# Altium footprint library LED SMD.PcbLib: 20 footprints (part 2 of 2)
Each footprint in its own frame and in the unit in brackets; x right, y up, seen from the top. Pads: shape width x height; smd on the part's side, far side on the other; paste and mask are expansions set on the pad; w line width, h text height; cw(c..) or ccw(c..) is an arc to the next point about the centre after c.
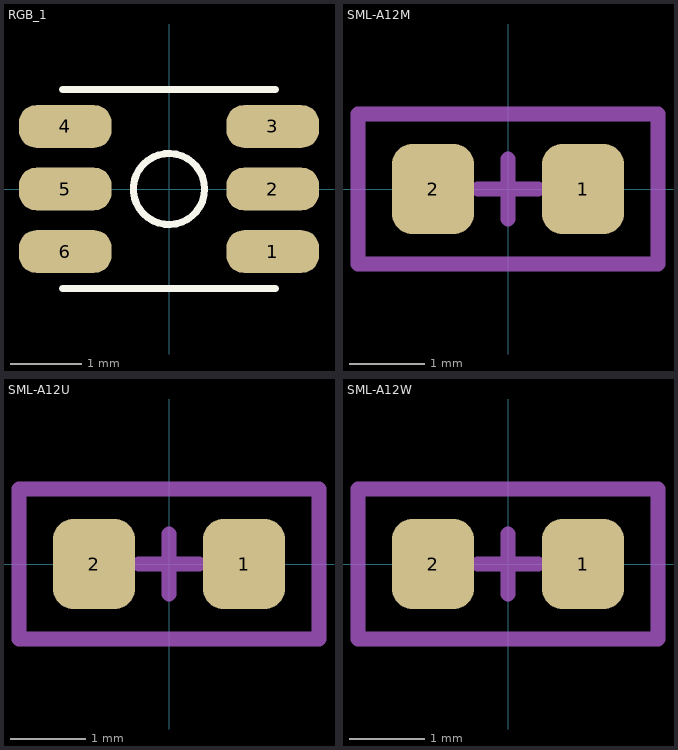
[diagram p1: the footprints below, top view; thin cyan lines are the x and y axes]

## RGB_1 [mm] "RGB_1_AVAGO"
height 1.8
pads (6):
  rrect80% 1.3x0.6 smd: 1(1.46,-0.88) 2(1.46,0) 3(1.46,0.88) 4(-1.46,0.88) 5(-1.46,0) 6(-1.46,-0.88)
Top Overlay:
  circle w0.1: c0,0 r0.5
  lines w0.1: -1.5,-1.4 1.5,-1.4 ; -1.5,1.4 1.5,1.4
3D body: height 1.8, standoff 0, extent -1.5,-1.4 1.5,1.4

## SML-A12M [mm] "0605 LED yellowish green"
pads (2):
  rrect50% 1.1x1.2 smd: 1(1,0) 2(-1,0)
Mechanical 15:
  lines w0.2: -0.4,0 0.4,0 ; 0,-0.4 0,0.4 ; -2,-1 -2,1 2,1 2,-1 -2,-1
3D body: height 0.55, standoff 0, extent -0.6,0.35 0.6,0.8
3D body: height 0.55, standoff 0, extent -0.8,-0.35 0.8,0.35

## SML-A12U [mm] "0605 LED Red"
pads (2):
  rrect50% 1.1x1.2 smd: 1(1,0) 2(-1,0)
Mechanical 15:
  lines w0.2: -0.4,0 0.4,0 ; 0,-0.4 0,0.4 ; -2,-1 2,-1 2,1 -2,1 -2,-1
3D body: height 0.55, standoff 0, extent -0.8,-0.35 0.8,0.35
3D body: height 0.55, standoff 0, extent -0.6,0.35 0.6,0.8

## SML-A12W [mm] "0605 LED Yellow"
pads (2):
  rrect50% 1.1x1.2 smd: 1(1,0) 2(-1,0)
Mechanical 15:
  lines w0.2: -0.4,0 0.4,0 ; 0,-0.4 0,0.4 ; -2,-1 -2,1 2,1 2,-1 -2,-1
3D body: height 0.55, standoff 0, extent -0.6,0.35 0.6,0.8
3D body: height 0.55, standoff 0, extent -0.8,-0.35 0.8,0.35